# Altium footprint library Nebulizer_medical.PcbLib: 28 footprints (part 1 of 2)
Each footprint in its own frame and in the unit in brackets; x right, y up, seen from the top. Pads: shape width x height; smd on the part's side, far side on the other; paste and mask are expansions set on the pad; w line width, h text height; cw(c..) or ccw(c..) is an arc to the next point about the centre after c.
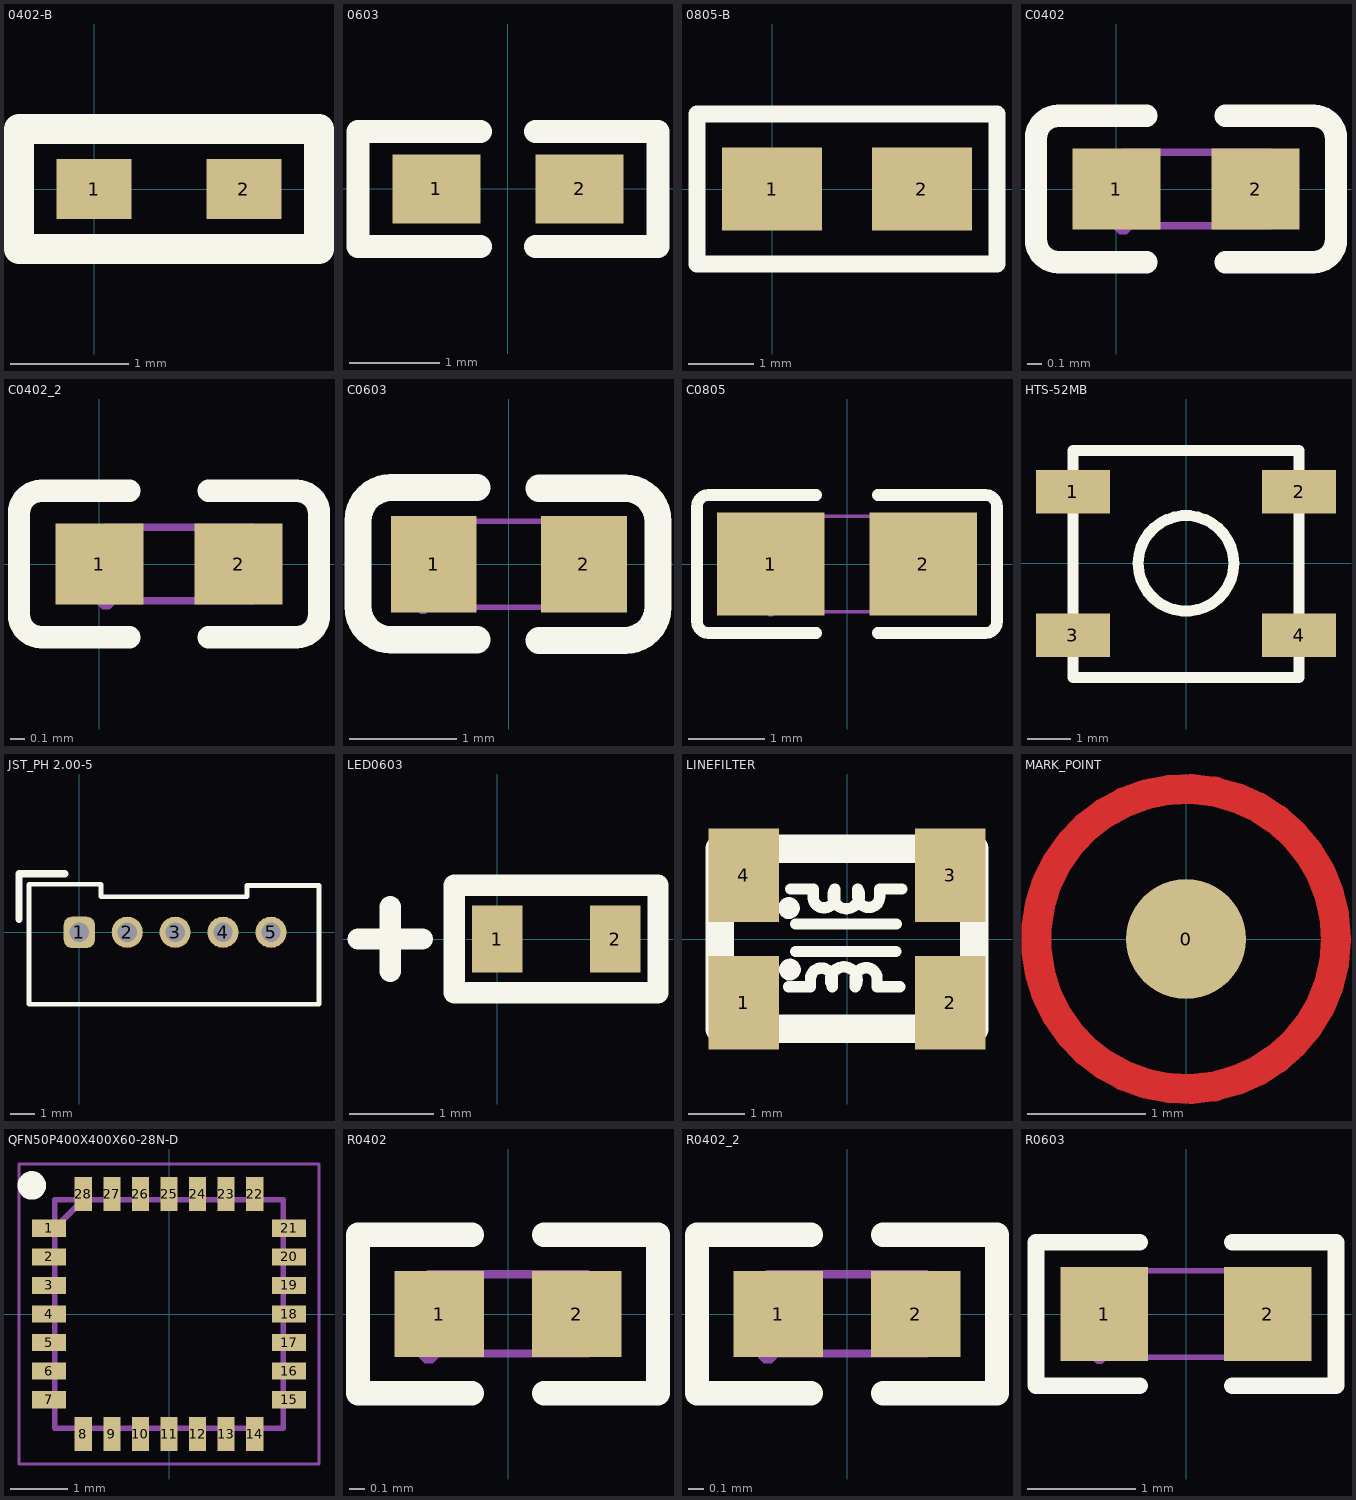
[diagram p0: the footprints below, top view; thin cyan lines are the x and y axes]

## 0402-B [mil] "BEAD-0402"
pads (2):
  rect 25x20 smd mask+5: 1(0,0) 2(50,0)
Top Overlay:
  lines w10: -25,-20 37.5,-20 75,-20 75,20 37.5,20 -25,20 -25,-20

## 0603 [mil]
height 43.31
pads (2):
  rect 38x30 smd mask+5: 1(-31,0) 2(31,0)
Top Overlay:
  lines w10: -12,-25 -65,-25 -65,25 -12,25 ; 12,-25 65,-25 65,25 12,25

## 0805-B [mil] "BEAD"
pads (2):
  rect 60x50 smd mask+5: 1(0,0) 2(90,0)
Top Overlay:
  lines w10: -45,-45 -45,45 60,45 125,45 135,45 135,-45 125,-45 60,-45 -35,-45 -45,-45

## C0402 [mm]
pads (2):
  rect 0.6x0.55 smd paste-100 mask+0.051: 1(0,0) 2(0.95,0)
Top Overlay:
  lines w0.152: -0.395,-0.499 cw(c-0.395,-0.346) -0.547,-0.346 -0.547,0.346 cw(c-0.395,0.346) -0.395,0.499 ; -0.394,-0.499 0.206,-0.499 ; -0.394,0.499 0.206,0.499 ; 0.744,-0.499 1.344,-0.499 ; 0.744,0.499 1.344,0.499 ; 1.345,-0.499 ccw(c1.345,-0.346) 1.497,-0.346 1.497,0.346 ccw(c1.345,0.346) 1.345,0.499
Top Paste:
  region: 1.25,0.224 1.25,-0.226 1.2,-0.276 0.72,-0.276 0.65,-0.226 0.65,0.224 0.72,0.274 1.2,0.274
  region: 0.295,0.222 0.295,-0.228 0.225,-0.278 -0.255,-0.278 -0.305,-0.228 -0.305,0.222 -0.255,0.272 0.225,0.272
Mechanical 15:
  region: 1.045,-0.25 1.045,0.25 0.795,0.25 0.795,-0.25
  region: 0.045,-0.25 0.045,0.25 0.295,0.25 0.295,-0.25
  region: 0.105,-0.25 0.105,-0.225 0.07,-0.19 0.02,-0.19 -0.015,-0.225 -0.015,-0.25 -0.015,-0.275 0.02,-0.31 0.07,-0.31 0.105,-0.275
  lines w0.051: 0.045,-0.25 1.045,-0.25 1.045,0.25 0.045,0.25 0.045,-0.25
3D body "3D_PCB1_2023-04-25.step": height 0.5, standoff 0, extent -0.017,-0.254 0.983,0.246

## C0402_2 [mm]
pads (2):
  rect 0.6x0.55 smd paste-100 mask+0.051: 1(0,0) 2(0.95,0)
Top Overlay:
  lines w0.152: -0.395,-0.499 cw(c-0.395,-0.346) -0.547,-0.346 -0.547,0.346 cw(c-0.395,0.346) -0.395,0.499 ; -0.394,-0.499 0.206,-0.499 ; -0.394,0.499 0.206,0.499 ; 0.744,-0.499 1.344,-0.499 ; 0.744,0.499 1.344,0.499 ; 1.345,-0.499 ccw(c1.345,-0.346) 1.497,-0.346 1.497,0.346 ccw(c1.345,0.346) 1.345,0.499
Top Paste:
  region: 1.25,0.224 1.25,-0.226 1.2,-0.276 0.72,-0.276 0.65,-0.226 0.65,0.224 0.72,0.274 1.2,0.274
  region: 0.295,0.222 0.295,-0.228 0.225,-0.278 -0.255,-0.278 -0.305,-0.228 -0.305,0.222 -0.255,0.272 0.225,0.272
Mechanical 15:
  region: 1.045,-0.25 1.045,0.25 0.795,0.25 0.795,-0.25
  region: 0.045,-0.25 0.045,0.25 0.295,0.25 0.295,-0.25
  region: 0.105,-0.25 0.105,-0.225 0.07,-0.19 0.02,-0.19 -0.015,-0.225 -0.015,-0.25 -0.015,-0.275 0.02,-0.31 0.07,-0.31 0.105,-0.275
  lines w0.051: 0.045,-0.25 1.045,-0.25 1.045,0.25 0.045,0.25 0.045,-0.25
3D body "3D_PCB1_2023-04-25.step": height 0.5, standoff 0, extent -0.017,-0.254 0.983,0.246

## C0603 [mm]
pads (2):
  rect 0.8x0.9 smd mask+0.051: 1(-0.7,0) 2(0.7,0)
Top Overlay:
  lines w0.254: -0.296,-0.704 -1.096,-0.704 cw(c-1.096,-0.394) -1.406,-0.394 -1.405,0.406 cw(c-1.096,0.406) -1.096,0.715 -0.296,0.715 ; 0.28,-0.71 1.08,-0.71 ccw(c1.08,-0.4) 1.39,-0.4 1.39,0.4 ccw(c1.08,0.4) 1.08,0.71 0.28,0.71
Mechanical 15:
  region: -0.8,-0.4 -0.8,0.4 -0.5,0.4 -0.5,-0.4
  region: 0.8,-0.4 0.8,0.4 0.5,0.4 0.5,-0.4
  region: -0.74,-0.4 -0.74,-0.375 -0.775,-0.34 -0.825,-0.34 -0.86,-0.375 -0.86,-0.4 -0.86,-0.425 -0.825,-0.46 -0.775,-0.46 -0.74,-0.425
  lines w0.051: -0.8,-0.4 -0.8,0.4 0.8,0.4 0.8,-0.4 -0.8,-0.4
3D body "C0603.step": height 0.8, standoff 0, extent -0.798,-0.395 0.802,0.405

## C0805 [mm]
pads (2):
  rect 1.41x1.35 smd mask+0.051: 1(-1,0) 2(1,0)
Top Overlay:
  lines w0.152: -0.401,-0.904 -1.811,-0.904 cw(c-1.811,-0.751) -1.964,-0.751 -1.964,0.751 cw(c-1.811,0.751) -1.811,0.904 -0.401,0.904 ; 0.401,-0.904 1.811,-0.904 ccw(c1.811,-0.751) 1.964,-0.751 1.964,0.751 ccw(c1.811,0.751) 1.811,0.904 0.401,0.904
Top Paste:
  region: -1.675,-0.62 -1.675,0.66 -1.625,0.71 -0.475,0.71 -0.425,0.66 -0.42,0.25 -0.87,0.25 -0.87,-0.2 -0.43,-0.2 -0.425,-0.62 -0.475,-0.67 -1.625,-0.67
  region: 0.475,-0.62 0.475,-0.2 0.92,-0.2 0.92,0.25 0.48,0.25 0.475,0.66 0.525,0.71 1.675,0.71 1.725,0.66 1.725,-0.62 1.675,-0.67 0.525,-0.67
Mechanical 15:
  region: -1,-0.625 -1,0.625 -0.5,0.625 -0.5,-0.625
  region: 1,0.625 1,-0.625 0.5,-0.625 0.5,0.625
  region: -0.94,-0.625 -0.94,-0.6 -0.975,-0.565 -1.025,-0.565 -1.06,-0.6 -1.06,-0.625 -1.06,-0.65 -1.025,-0.685 -0.975,-0.685 -0.94,-0.65
  lines w0.051: -1,-0.625 -1,0.625 1,0.625 1,-0.625 -1,-0.625
3D body "c0805.step": height 1.3, standoff 0, extent -1,-0.665 1,0.635

## HTS-52MB [mm]
pads (4):
  rect 1.7x1 smd mask+0.127: 1(-2.6,1.65) 2(2.6,1.65) 3(-2.6,-1.65) 4(2.6,-1.65)
Top Overlay:
  circle w0.254: c0,0.001 r1.099
  lines w0.254: -2.602,-2.621 -2.602,2.593 2.599,2.593 2.599,-2.621 -2.602,-2.621

## JST_PH 2.00-5 [mm]
height 12.75
pads (5):
  rrect50% 1.3x1.3 hole 0.8 mask+0.127: 1(0,0)
  round 1.3 hole 0.8 mask+0.127: 2(2,0) 3(4,0) 4(6,0) 5(8,0)
Top Overlay:
  lines w0.2: 0.9,1.479 7,1.479 7,1.947 10,1.947 10,-3 -2.1,-3 -2.1,2 0.9,2 0.9,1.532
  lines w0.3: -2.515,0.533 -2.515,2.438 -0.61,2.438
3D body "B5B-PH-K-S.STEP": height 6, standoff -3.4, extent -1.95,-2.8 9.95,1.7

## LED0603 [mm] "LED"
height 0.254
pads (2):
  rect 0.6x0.8 smd mask+0.127: 1(0,0) 2(1.4,0)
Top Overlay:
  lines w0.254: -1.651,0 -0.889,0 ; -1.27,-0.381 -1.27,0.381 ; -0.508,-0.635 -0.508,0.635 1.905,0.635 1.905,-0.635 -0.508,-0.635

## LINEFILTER [mm]
height 2.8
pads (4):
  rect 1.25x1.65 smd mask+0.127: 1(-1.825,-1.125) 2(1.825,-1.125) 3(1.825,1.125) 4(-1.825,1.125)
Top Overlay:
  circle w0.2: c-1.027,0.546 r0.093
  circle w0.2: c-1.009,-0.541 r0.093
  lines w0.2: -1.034,-0.841 -0.646,-0.841 -0.646,-0.705 cw(c-0.452,-0.707) -0.258,-0.705 -0.258,-0.841 cw(c-0.055,-0.725) 0.148,-0.841 0.148,-0.68 cw(c0.339,-0.698) 0.53,-0.68 0.53,-0.841 0.93,-0.841 ; -0.998,0.884 -0.598,0.884 -0.598,0.723 ccw(c-0.407,0.741) -0.216,0.723 -0.216,0.884 ccw(c-0.013,0.769) 0.19,0.884 0.19,0.749 ccw(c0.384,0.75) 0.578,0.749 0.578,0.884 0.966,0.884 ; -0.91,-0.222 0.863,-0.222 ; -0.903,0.263 0.87,0.263
  lines w0.5: -2.25,-1.584 2.251,-1.584 2.251,1.595 -2.25,1.595 -2.25,-1.584
3D body: height 2.8, standoff 0, extent -2.413,-1.905 2.413,1.905

## MARK_POINT [mil] "MARK"
height 43.31
pads (1):
  round 40 smd mask+5: 0(0,0)
Top Layer:
  circle w10: c0,0 r50
Top Solder:
  circle w20: c0,0 r30

## QFN50P400X400X60-28N-D [mm]
pads (28):
  rect 0.6x0.3 smd mask+0.127: 1(-2.1,1.5) 2(-2.1,1) 3(-2.1,0.5) 4(-2.1,0) 5(-2.1,-0.5) 6(-2.1,-1) 7(-2.1,-1.5) 15(2.1,-1.5) 16(2.1,-1) 17(2.1,-0.5) 18(2.1,0) 19(2.1,0.5) 20(2.1,1) 21(2.1,1.5)
  rect 0.3x0.6 smd mask+0.127: 8(-1.5,-2.1) 9(-1,-2.1) 10(-0.5,-2.1) 11(0,-2.1) 12(0.5,-2.1) 13(1,-2.1) 14(1.5,-2.1) 22(1.5,2.1) 23(1,2.1) 24(0.5,2.1) 25(0,2.1) 26(-0.5,2.1) 27(-1,2.1) 28(-1.5,2.1)
Top Overlay:
  circle w0.25: c-2.4,2.25 r0.125
Mechanical 13:
  lines w0.1: -2,1.5 -1.5,2 ; -2,-2 -2,2 2,2 2,-2 -2,-2
Mechanical 15:
  lines w0.05: -2.625,-2.625 2.625,-2.625 2.625,2.625 -2.625,2.625 -2.625,-2.625
3D body "STM32C031G6U6.stp": height 0.6, standoff 0, extent -2,-2 2,2

## R0402 [mm]
pads (2):
  rect 0.566x0.54 smd mask+0.051: 1(-0.433,0) 2(0.433,0)
Top Overlay:
  lines w0.152: -0.226,-0.499 -0.944,-0.499 -0.944,0.499 -0.226,0.499 ; 0.226,-0.499 0.944,-0.499 0.944,0.499 0.226,0.499
Top Paste:
  region: 0.135,-0.23 0.135,0.23 0.175,0.27 0.676,0.27 0.716,0.23 0.716,-0.23 0.676,-0.27 0.175,-0.27
  region: -0.135,-0.23 -0.135,0.23 -0.175,0.27 -0.676,0.27 -0.716,0.23 -0.716,-0.23 -0.676,-0.27 -0.175,-0.27
Mechanical 15:
  region: 0.251,-0.25 0.251,0.25 0.501,0.25 0.501,-0.25
  region: -0.249,0.25 -0.249,-0.25 -0.499,-0.25 -0.499,0.25
  region: -0.44,-0.25 -0.44,-0.225 -0.475,-0.19 -0.525,-0.19 -0.56,-0.225 -0.56,-0.25 -0.56,-0.275 -0.525,-0.31 -0.475,-0.31 -0.44,-0.275
  lines w0.051: -0.5,-0.25 -0.5,0.25 0.5,0.25 0.5,-0.25 -0.5,-0.25
3D body "R0402.step": height 0.5, standoff 0, extent -0.5,-0.246 0.5,0.254

## R0402_2 [mm]
pads (2):
  rect 0.566x0.54 smd mask+0.051: 1(-0.433,0) 2(0.433,0)
Top Overlay:
  lines w0.152: -0.226,-0.499 -0.944,-0.499 -0.944,0.499 -0.226,0.499 ; 0.226,-0.499 0.944,-0.499 0.944,0.499 0.226,0.499
Top Paste:
  region: -0.135,-0.23 -0.135,0.23 -0.175,0.27 -0.676,0.27 -0.716,0.23 -0.716,-0.23 -0.676,-0.27 -0.175,-0.27
  region: 0.135,-0.23 0.135,0.23 0.175,0.27 0.676,0.27 0.716,0.23 0.716,-0.23 0.676,-0.27 0.175,-0.27
Mechanical 15:
  region: -0.44,-0.25 -0.44,-0.225 -0.475,-0.19 -0.525,-0.19 -0.56,-0.225 -0.56,-0.25 -0.56,-0.275 -0.525,-0.31 -0.475,-0.31 -0.44,-0.275
  region: -0.249,0.25 -0.249,-0.25 -0.499,-0.25 -0.499,0.25
  region: 0.251,-0.25 0.251,0.25 0.501,0.25 0.501,-0.25
  lines w0.051: -0.5,-0.25 0.5,-0.25 0.5,0.25 -0.5,0.25 -0.5,-0.25
3D body "R0402.step": height 0.5, standoff 0, extent -0.5,-0.246 0.5,0.254

## R0603 [mm]
pads (2):
  rect 0.806x0.864 smd mask+0.051: 1(-0.753,0) 2(0.753,0)
Top Overlay:
  lines w0.152: -0.426,-0.661 -1.385,-0.661 -1.385,0.661 -0.426,0.661 ; 0.426,-0.661 1.385,-0.661 1.385,0.661 0.426,0.661
Top Paste:
  region: -0.355,0.4 -0.355,0.172 -0.735,0.172 -0.735,-0.158 -0.355,-0.158 -0.355,-0.4 -0.405,-0.45 -1.195,-0.45 -1.245,-0.4 -1.245,0.4 -1.195,0.45 -0.405,0.45
  region: 1.195,0.45 0.395,0.45 0.345,0.4 0.345,0.172 0.715,0.172 0.715,-0.158 0.345,-0.158 0.345,-0.4 0.395,-0.45 1.195,-0.45 1.245,-0.4 1.245,0.4
Mechanical 15:
  region: 0.8,-0.4 0.8,0.4 0.5,0.4 0.5,-0.4
  region: -0.8,-0.4 -0.8,0.4 -0.5,0.4 -0.5,-0.4
  region: -0.74,-0.4 -0.74,-0.375 -0.775,-0.34 -0.825,-0.34 -0.86,-0.375 -0.86,-0.4 -0.86,-0.425 -0.825,-0.46 -0.775,-0.46 -0.74,-0.425
  lines w0.051: -0.8,-0.4 0.8,-0.4 0.8,0.4 -0.8,0.4 -0.8,-0.4
3D body "R0603.step": height 0.45, standoff 0, extent -0.839,-0.398 0.781,0.412